# Altium footprint library ReboostV21.PcbLib: 40 footprints (part 1 of 3)
Each footprint in its own frame and in the unit in brackets; x right, y up, seen from the top. Pads: shape width x height; smd on the part's side, far side on the other; paste and mask are expansions set on the pad; w line width, h text height; cw(c..) or ccw(c..) is an arc to the next point about the centre after c.
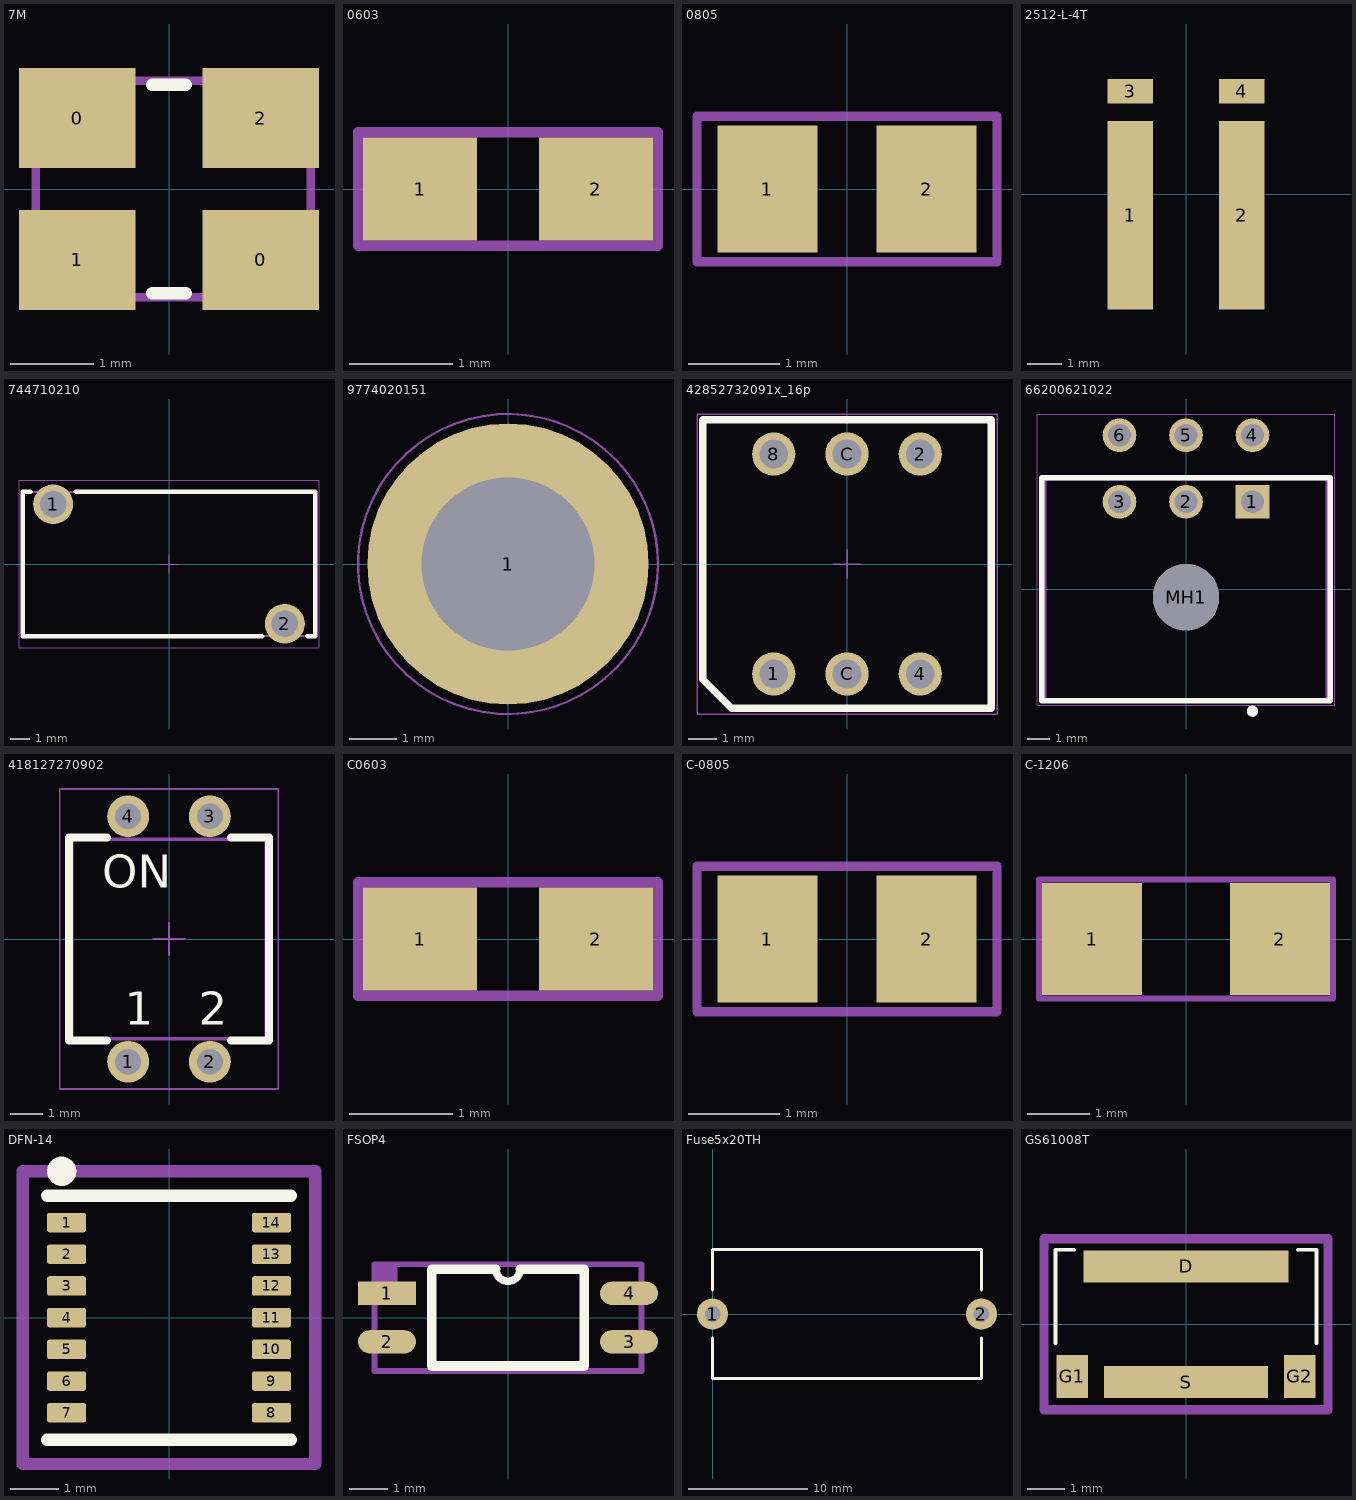
[diagram p0: the footprints below, top view; thin cyan lines are the x and y axes]

## 7M [mm]
pads (4):
  rect 1.4x1.2 smd: 0(-1.1,0.85) 0(1.1,-0.85) 1(-1.1,-0.85) 2(1.1,0.85)
Top Overlay:
  lines w0.15: -0.2,-1.25 0.2,-1.25 ; -0.2,1.25 0.2,1.25
Mechanical 29:
  rectangle: -1.6,-1.3 -1.2,-0.9
  lines w0.1: -1.6,-1.3 1.7,-1.3 1.7,1.3 -1.6,1.3 -1.6,-1.3
  text ".Designator" at -1.4,-0.4 h0.8
3D body "User Library-Crystal TXC Corp 7M series.step": height 0.8, standoff 0, extent -1.6,-1.3 1.7,1.3

## 0603 [mm]
pads (2):
  rect 1.1x1 smd: 1(-0.85,0) 2(0.85,0)
Mechanical 29:
  lines w0.1: -1.45,-0.55 -1.45,0.55 1.45,0.55 1.45,-0.55 -1.45,-0.55
  text ".Designator" at -1.47,-0.41 h0.8
3D body: height 0.41, standoff 0.4, extent -0.25,-0.35 0.24,0.34
3D body: height 0.4, standoff 0.05, extent -0.9,-0.4 0.9,0.4
3D body: height 0.45, standoff 0, extent 0.6,-0.45 0.95,0.45
3D body: height 0.45, standoff 0, extent -0.95,-0.45 -0.6,0.45

## 0805 [mm]
pads (2):
  rect 1.1x1.4 smd: 1(-0.875,0) 2(0.875,0)
Mechanical 29:
  lines w0.1: -1.65,-0.8 1.65,-0.8 1.65,0.8 -1.65,0.8 -1.65,-0.8
  text ".Designator" at -1.66,-0.38 h0.8
3D body: height 0.56, standoff 0.55, extent -0.25,-0.35 0.24,0.34
3D body: height 0.55, standoff 0.05, extent -1,-0.63 1,0.63
3D body: height 0.6, standoff 0, extent 0.61,-0.64 1.01,0.64
3D body: height 0.6, standoff 0, extent -1.01,-0.64 -0.61,0.64

## 2512-L-4T [mm]
pads (4):
  rect 1.3x5.4 smd: 1(-1.6,-0.6) 2(1.6,-0.6)
  rect 1.3x0.7 smd: 3(-1.6,2.95) 4(1.6,2.95)
3D body: height 0.55, standoff 0.05, extent -1.6,-3.17 1.6,3.23
3D body: height 0.6, standoff 0, extent -1.61,-3.18 -0.91,3.24
3D body: height 0.6, standoff 0, extent 0.92,-3.18 1.62,3.24
3D body: height 0.56, standoff 0.55, extent -0.25,-0.35 0.24,0.34

## 744710210 [mm]
pads (2):
  round 2.1 hole 1.4: 1(-6.1,3.15) 2(6.1,-3.15)
Top Overlay:
  lines w0.25: -7.3,3.8 -7.7,3.8 -7.7,-3.8 4.9,-3.8 ; -4.9,3.8 7.7,3.8 7.7,-3.8 7.3,-3.8
Mechanical 13:
  lines w0.1: -7.7,-3.8 7.7,-3.8 7.7,3.8 -7.7,3.8 -7.7,-3.8
Mechanical 15:
  lines w0.05: -0.5,0 0.5,0 ; 0,-0.5 0,0.5 ; -7.9,-4.4 -7.9,4.4 7.9,4.4 7.9,-4.4 -7.9,-4.4
3D body "744710210.stp": height 7.65, standoff -2.95, extent -7.7,-3.801 7.7,3.797

## 9774020151 [mm]
pads (1):
  round 6 / inner round 0 / far side round 0 hole 3.7 unplated: 1(0,0)
Top Paste:
  region: 0.325,2.902 0.57,2.874 1.044,2.738 1.488,2.524 1.89,2.239 2.239,1.89 2.524,1.488 2.738,1.044 2.874,0.57 2.902,0.325 1.872,0.325 1.842,0.467 1.749,0.743 1.615,1.002 1.443,1.237 1.237,1.442 1.002,1.614 0.744,1.748 0.468,1.842 0.325,1.872
  region: 2.902,-0.325 2.874,-0.57 2.738,-1.044 2.524,-1.488 2.239,-1.89 1.89,-2.239 1.488,-2.524 1.044,-2.738 0.57,-2.874 0.325,-2.902 0.325,-1.872 0.467,-1.842 0.743,-1.749 1.002,-1.615 1.237,-1.443 1.442,-1.237 1.614,-1.002 1.748,-0.744 1.842,-0.468 1.872,-0.325
  region: -0.325,-2.902 -0.57,-2.874 -1.044,-2.738 -1.488,-2.524 -1.89,-2.239 -2.239,-1.89 -2.524,-1.488 -2.738,-1.044 -2.874,-0.57 -2.902,-0.325 -1.872,-0.325 -1.842,-0.467 -1.749,-0.743 -1.615,-1.002 -1.443,-1.237 -1.237,-1.442 -1.002,-1.614 -0.744,-1.748 -0.468,-1.842 -0.325,-1.872
  region: -2.902,0.325 -2.874,0.57 -2.738,1.044 -2.524,1.488 -2.239,1.89 -1.89,2.239 -1.488,2.524 -1.044,2.738 -0.57,2.874 -0.325,2.902 -0.325,1.872 -0.467,1.842 -0.743,1.749 -1.002,1.615 -1.237,1.443 -1.442,1.237 -1.614,1.002 -1.748,0.744 -1.842,0.468 -1.872,0.325
Mechanical 13:
  circle w0.1: c0,0 r2.55
Mechanical 15:
  circle w0.05: c0,0 r3.2
  lines w0.05: -0.5,0 0.5,0 ; 0,-0.5 0,0.5
3D body "9774020151.stp": height 2, standoff -1.4, extent -2.55,-2.547 2.55,2.547

## 42852732091x_16p [mm]
pads (6):
  round 1.5 hole 1: 1(-2.54,-3.81) 2(2.54,3.81) 4(2.54,-3.81) 8(-2.54,3.81) C(0,-3.81) C(0,3.81)
Top Overlay:
  lines w0.25: -5,-4 -5,5 5,5 5,-5 -4,-5 -5,-4
Mechanical 13:
  lines w0.1: -5,-4 -4,-5 5,-5 5,5 -5,5 -5,-4
Mechanical 15:
  lines w0.05: -0.5,0 0.5,0 ; 0,-0.5 0,0.5 ; -5.2,-5.2 -5.2,5.2 5.2,5.2 5.2,-5.2 -5.2,-5.2
3D body "42852732091x_16_Pos.stp": height 6.55, standoff -3.75, extent -5,-5 5,5

## 66200621022 [mm]
pads (7):
  rect 1.52x1.52 hole 1.02: 1(3,3.95)
  round 1.52 hole 1.02: 2(0,3.95) 3(-3,3.95) 4(3,6.95) 5(0,6.95) 6(-3,6.95)
  round 3 hole 3 unplated: MH1(0,-0.35)
Top Overlay:
  circle w0.25: c3,-5.5 r0.125
  lines w0.25: -6.5,-5.025 6.5,-5.025 6.5,5.025 -6.5,5.025 -6.5,-5.025
Mechanical 13:
  lines w0.1: -6.35,-4.95 -6.35,4.95 6.35,4.95 6.35,-4.95 -6.35,-4.95
Mechanical 15:
  lines w0.05: -0.5,0 0.5,0 ; 0,-0.5 0,0.5 ; -6.7,-5.225 6.7,-5.225 6.7,7.91 -6.7,7.91 -6.7,-5.225
3D body "62000621022.stp": height 8.79, standoff -3.17, extent -6.35,-4.95 6.35,7.27

## 418127270902 [mm]
pads (4):
  round 1.3 hole 0.8: 1(-1.27,-3.81) 2(1.27,-3.81) 3(1.27,3.81) 4(-1.27,3.81)
Top Overlay:
  lines w0.25: -1.92,-3.15 -3.11,-3.15 -3.11,3.15 -1.92,3.15 ; 1.92,-3.15 3.11,-3.15 3.11,3.15 1.92,3.15
  text "2" at 0.93,-2.67 h1.02
  text "ON" at -2.07,1.59 h1.02
  text "1" at -1.37,-2.67 h1.02
Mechanical 13:
  lines w0.1: -3.01,-3.1 -3.01,3.1 3.01,3.1 3.01,-3.1 -3.01,-3.1
  text "1" at -1.37,-2.67 h1.02
  text "ON" at -2.07,1.59 h1.02
  text "2" at 0.93,-2.67 h1.02
Mechanical 15:
  lines w0.05: -0.5,0 0.5,0 ; 0,-0.5 0,0.5 ; -3.39,-4.66 -3.39,4.66 3.39,4.66 3.39,-4.66 -3.39,-4.66
3D body "418127270902.stp": height 4.15, standoff -3.45, extent -3.01,-3.985 3.01,3.885

## C0603 [mm]
pads (2):
  rect 1.1x1 smd: 1(-0.85,0) 2(0.85,0)
Mechanical 29:
  lines w0.1: -1.45,-0.55 1.45,-0.55 1.45,0.55 -1.45,0.55 -1.45,-0.55
  text ".Designator" at -1.45,-0.4 h0.8
3D body: height 0.41, standoff 0.4, extent -0.28,-0.38 0.28,0.38
3D body: height 0.45, standoff 0, extent -0.95,-0.45 -0.6,0.45
3D body: height 0.45, standoff 0, extent 0.6,-0.45 0.95,0.45
3D body: height 0.4, standoff 0.05, extent -0.9,-0.4 0.9,0.4

## C-0805 [mm]
pads (2):
  rect 1.1x1.4 smd: 1(-0.875,0) 2(0.875,0)
Mechanical 29:
  lines w0.1: -1.65,-0.8 1.65,-0.8 1.65,0.8 -1.65,0.8 -1.65,-0.8
  text ".Designator" at -1.7,-0.55 h1
3D body: height 0.6, standoff 0, extent -1.01,-0.64 -0.61,0.64
3D body: height 0.6, standoff 0, extent 0.61,-0.64 1.01,0.64
3D body: height 0.55, standoff 0.05, extent -1,-0.63 1,0.63
3D body: height 0.56, standoff 0.55, extent -0.4,-0.6 0.47,0.6

## C-1206 [mm]
pads (2):
  rect 1.6x1.8 smd: 1(-1.5,0) 2(1.5,0)
Mechanical 29:
  lines w0.1: -2.35,-0.95 -2.35,0.95 2.35,0.95 2.35,-0.95 -2.35,-0.95
  text ".Designator" at -2.35,-0.65 h1.2
3D body: height 0.4, standoff 0.05, extent -1.6,-0.8 1.6,0.8
3D body: height 0.45, standoff 0, extent -1.61,-0.81 -1.25,0.81
3D body: height 0.41, standoff 0.4, extent -0.28,-0.38 0.28,0.38
3D body: height 0.45, standoff 0, extent 1.25,-0.81 1.61,0.81

## DFN-14 [mm]
pads (14):
  rrect25% 0.8x0.4 smd: 1(-2.1,1.95) 2(-2.1,1.3) 3(-2.1,0.65) 4(-2.1,0) 5(-2.1,-0.65) 6(-2.1,-1.3) 7(-2.1,-1.95) 8(2.1,-1.95) 9(2.1,-1.3) 10(2.1,-0.65) 11(2.1,0) 12(2.1,0.65) 13(2.1,1.3) 14(2.1,1.95)
Top Overlay:
  circle w0.3: c-2.2,3 r0.15
  lines w0.254: -2.5,-2.5 2.5,-2.5 ; -2.5,2.5 2.5,2.5
Mechanical 15:
  lines w0.254: -3,-3 3,-3 3,3 -3,3 -3,-3
3D body: height 0.95, standoff 0.05, extent -2.5,-2.5 2.5,2.5

## FSOP4 [mm]
pads (4):
  rect 1.52x0.61 smd: 1(-3.175,0.635)
  oval 1.52x0.61 smd: 2(-3.175,-0.635) 3(3.175,-0.635) 4(3.175,0.635)
Top Overlay:
  lines w0.2: -0.318,1.27 ccw(c0,1.27) 0.318,1.27
  lines w0.25: -0.318,1.27 -2,1.27 -2,-1.27 2,-1.27 2,1.27 0.318,1.27
Mechanical 29:
  rectangle: -3.5,0.8 -2.9,1.4
  lines w0.15: -3.5,-1.4 3.5,-1.4 3.5,1.4 -3.5,1.4 -3.5,-1.4
  text ".designator" at -3,-0.4 h1.52
3D body "User Library-SOP-4-1.step": height 2.1, standoff 0, extent -3.5,-1.4 3.5,1.4

## Fuse5x20TH [mm]
pads (2):
  round 2.6 hole 1.3: 1(0,0) 2(22.5,0)
Top Overlay:
  lines w0.25: 0,-2 0,-5.4 22.5,-5.4 22.5,-2 ; 0,2 0,5.4 22.5,5.4 22.5,2
3D body "31-8201.stp": height 11.5, standoff -4, extent -0.3,-4.8 22.8,4.8

## GS61008T [mm]
pads (4):
  rect 5.5x0.85 smd paste-0.1: D(0,1.55)
  rect 0.85x1.15 smd paste-0.1: G1(-3.05,-1.4)
  rect 0.85x1.15 smd: G2(3.05,-1.4)
  rect 4.4x0.85 smd paste-0.1: S(0,-1.55)
Top Overlay:
  lines w0.102: -3.5,-0.5 -3.5,2 -3,2 ; 3,2 3.5,2 3.5,-0.5
Mechanical 5:
  lines w0.254: -3.81,-2.3 -3.81,2.3 3.81,2.3 3.81,-2.3 -3.81,-2.3
  text ".Designator" at -3.048,-0.254 h2.54
3D body: height 0.5, standoff 0, extent -3.5,-2 3.5,2